# Altium footprint library QFN50P500X500X60-33N-D.PcbLib: 1 footprints
Each footprint in its own frame and in the unit in brackets; x right, y up, seen from the top. Pads: shape width x height; smd on the part's side, far side on the other; paste and mask are expansions set on the pad; w line width, h text height; cw(c..) or ccw(c..) is an arc to the next point about the centre after c.
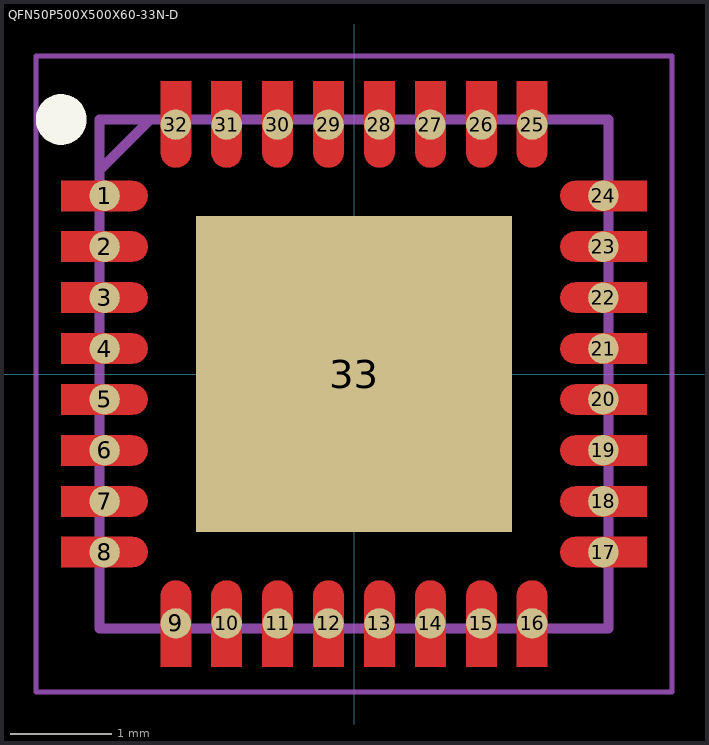
[diagram p0: the footprint, top view; thin cyan lines are the x and y axes]

## QFN50P500X500X60-33N-D [mm]
pads (33):
  round 0.3 smd: 1(-2.45,1.75) 2(-2.45,1.25) 3(-2.45,0.75) 4(-2.45,0.25) 5(-2.45,-0.25) 6(-2.45,-0.75) 7(-2.45,-1.25) 8(-2.45,-1.75) 9(-1.75,-2.45) 10(-1.25,-2.45) 11(-0.75,-2.45) 12(-0.25,-2.45) 13(0.25,-2.45) 14(0.75,-2.45) 15(1.25,-2.45) 16(1.75,-2.45) 17(2.45,-1.75) 18(2.45,-1.25) 19(2.45,-0.75) 20(2.45,-0.25) 21(2.45,0.25) 22(2.45,0.75) 23(2.45,1.25) 24(2.45,1.75) 25(1.75,2.45) 26(1.25,2.45) 27(0.75,2.45) 28(0.25,2.45) 29(-0.25,2.45) 30(-0.75,2.45) 31(-1.25,2.45) 32(-1.75,2.45)
  rect 3.1x3.1 smd: 33(0,0)
L1-Top Layer:
  region: -2.875,1.9 -2.175,1.9 -2.136,1.895 -2.1,1.88 -2.069,1.856 -2.045,1.825 -2.03,1.789 -2.025,1.75 -2.03,1.711 -2.045,1.675 -2.069,1.644 -2.1,1.62 -2.136,1.605 -2.175,1.6 -2.875,1.6
  region: -2.875,1.4 -2.175,1.4 -2.136,1.395 -2.1,1.38 -2.069,1.356 -2.045,1.325 -2.03,1.289 -2.025,1.25 -2.03,1.211 -2.045,1.175 -2.069,1.144 -2.1,1.12 -2.136,1.105 -2.175,1.1 -2.875,1.1
  region: -2.875,0.9 -2.175,0.9 -2.136,0.895 -2.1,0.88 -2.069,0.856 -2.045,0.825 -2.03,0.789 -2.025,0.75 -2.03,0.711 -2.045,0.675 -2.069,0.644 -2.1,0.62 -2.136,0.605 -2.175,0.6 -2.875,0.6
  region: -2.875,0.4 -2.175,0.4 -2.136,0.395 -2.1,0.38 -2.069,0.356 -2.045,0.325 -2.03,0.289 -2.025,0.25 -2.03,0.211 -2.045,0.175 -2.069,0.144 -2.1,0.12 -2.136,0.105 -2.175,0.1 -2.875,0.1
  region: -2.875,-0.1 -2.175,-0.1 -2.136,-0.105 -2.1,-0.12 -2.069,-0.144 -2.045,-0.175 -2.03,-0.211 -2.025,-0.25 -2.03,-0.289 -2.045,-0.325 -2.069,-0.356 -2.1,-0.38 -2.136,-0.395 -2.175,-0.4 -2.875,-0.4
  region: -2.875,-0.6 -2.175,-0.6 -2.136,-0.605 -2.1,-0.62 -2.069,-0.644 -2.045,-0.675 -2.03,-0.711 -2.025,-0.75 -2.03,-0.789 -2.045,-0.825 -2.069,-0.856 -2.1,-0.88 -2.136,-0.895 -2.175,-0.9 -2.875,-0.9
  region: -2.875,-1.1 -2.175,-1.1 -2.136,-1.105 -2.1,-1.12 -2.069,-1.144 -2.045,-1.175 -2.03,-1.211 -2.025,-1.25 -2.03,-1.289 -2.045,-1.325 -2.069,-1.356 -2.1,-1.38 -2.136,-1.395 -2.175,-1.4 -2.875,-1.4
  region: -2.875,-1.6 -2.175,-1.6 -2.136,-1.605 -2.1,-1.62 -2.069,-1.644 -2.045,-1.675 -2.03,-1.711 -2.025,-1.75 -2.03,-1.789 -2.045,-1.825 -2.069,-1.856 -2.1,-1.88 -2.136,-1.895 -2.175,-1.9 -2.875,-1.9
  region: -1.9,-2.875 -1.9,-2.175 -1.895,-2.136 -1.88,-2.1 -1.856,-2.069 -1.825,-2.045 -1.789,-2.03 -1.75,-2.025 -1.711,-2.03 -1.675,-2.045 -1.644,-2.069 -1.62,-2.1 -1.605,-2.136 -1.6,-2.175 -1.6,-2.875
  region: -1.4,-2.875 -1.4,-2.175 -1.395,-2.136 -1.38,-2.1 -1.356,-2.069 -1.325,-2.045 -1.289,-2.03 -1.25,-2.025 -1.211,-2.03 -1.175,-2.045 -1.144,-2.069 -1.12,-2.1 -1.105,-2.136 -1.1,-2.175 -1.1,-2.875
  region: -0.9,-2.875 -0.9,-2.175 -0.895,-2.136 -0.88,-2.1 -0.856,-2.069 -0.825,-2.045 -0.789,-2.03 -0.75,-2.025 -0.711,-2.03 -0.675,-2.045 -0.644,-2.069 -0.62,-2.1 -0.605,-2.136 -0.6,-2.175 -0.6,-2.875
  region: -0.4,-2.875 -0.4,-2.175 -0.395,-2.136 -0.38,-2.1 -0.356,-2.069 -0.325,-2.045 -0.289,-2.03 -0.25,-2.025 -0.211,-2.03 -0.175,-2.045 -0.144,-2.069 -0.12,-2.1 -0.105,-2.136 -0.1,-2.175 -0.1,-2.875
  region: 0.1,-2.875 0.1,-2.175 0.105,-2.136 0.12,-2.1 0.144,-2.069 0.175,-2.045 0.211,-2.03 0.25,-2.025 0.289,-2.03 0.325,-2.045 0.356,-2.069 0.38,-2.1 0.395,-2.136 0.4,-2.175 0.4,-2.875
  region: 0.6,-2.875 0.6,-2.175 0.605,-2.136 0.62,-2.1 0.644,-2.069 0.675,-2.045 0.711,-2.03 0.75,-2.025 0.789,-2.03 0.825,-2.045 0.856,-2.069 0.88,-2.1 0.895,-2.136 0.9,-2.175 0.9,-2.875
  region: 1.1,-2.875 1.1,-2.175 1.105,-2.136 1.12,-2.1 1.144,-2.069 1.175,-2.045 1.211,-2.03 1.25,-2.025 1.289,-2.03 1.325,-2.045 1.356,-2.069 1.38,-2.1 1.395,-2.136 1.4,-2.175 1.4,-2.875
  region: 1.6,-2.875 1.6,-2.175 1.605,-2.136 1.62,-2.1 1.644,-2.069 1.675,-2.045 1.711,-2.03 1.75,-2.025 1.789,-2.03 1.825,-2.045 1.856,-2.069 1.88,-2.1 1.895,-2.136 1.9,-2.175 1.9,-2.875
  region: 2.875,-1.9 2.175,-1.9 2.136,-1.895 2.1,-1.88 2.069,-1.856 2.045,-1.825 2.03,-1.789 2.025,-1.75 2.03,-1.711 2.045,-1.675 2.069,-1.644 2.1,-1.62 2.136,-1.605 2.175,-1.6 2.875,-1.6
  region: 2.875,-1.4 2.175,-1.4 2.136,-1.395 2.1,-1.38 2.069,-1.356 2.045,-1.325 2.03,-1.289 2.025,-1.25 2.03,-1.211 2.045,-1.175 2.069,-1.144 2.1,-1.12 2.136,-1.105 2.175,-1.1 2.875,-1.1
  region: 2.875,-0.9 2.175,-0.9 2.136,-0.895 2.1,-0.88 2.069,-0.856 2.045,-0.825 2.03,-0.789 2.025,-0.75 2.03,-0.711 2.045,-0.675 2.069,-0.644 2.1,-0.62 2.136,-0.605 2.175,-0.6 2.875,-0.6
  region: 2.875,-0.4 2.175,-0.4 2.136,-0.395 2.1,-0.38 2.069,-0.356 2.045,-0.325 2.03,-0.289 2.025,-0.25 2.03,-0.211 2.045,-0.175 2.069,-0.144 2.1,-0.12 2.136,-0.105 2.175,-0.1 2.875,-0.1
  region: 2.875,0.1 2.175,0.1 2.136,0.105 2.1,0.12 2.069,0.144 2.045,0.175 2.03,0.211 2.025,0.25 2.03,0.289 2.045,0.325 2.069,0.356 2.1,0.38 2.136,0.395 2.175,0.4 2.875,0.4
  region: 2.875,0.6 2.175,0.6 2.136,0.605 2.1,0.62 2.069,0.644 2.045,0.675 2.03,0.711 2.025,0.75 2.03,0.789 2.045,0.825 2.069,0.856 2.1,0.88 2.136,0.895 2.175,0.9 2.875,0.9
  region: 2.875,1.1 2.175,1.1 2.136,1.105 2.1,1.12 2.069,1.144 2.045,1.175 2.03,1.211 2.025,1.25 2.03,1.289 2.045,1.325 2.069,1.356 2.1,1.38 2.136,1.395 2.175,1.4 2.875,1.4
  region: 2.875,1.6 2.175,1.6 2.136,1.605 2.1,1.62 2.069,1.644 2.045,1.675 2.03,1.711 2.025,1.75 2.03,1.789 2.045,1.825 2.069,1.856 2.1,1.88 2.136,1.895 2.175,1.9 2.875,1.9
  region: 1.9,2.875 1.9,2.175 1.895,2.136 1.88,2.1 1.856,2.069 1.825,2.045 1.789,2.03 1.75,2.025 1.711,2.03 1.675,2.045 1.644,2.069 1.62,2.1 1.605,2.136 1.6,2.175 1.6,2.875
  region: 1.4,2.875 1.4,2.175 1.395,2.136 1.38,2.1 1.356,2.069 1.325,2.045 1.289,2.03 1.25,2.025 1.211,2.03 1.175,2.045 1.144,2.069 1.12,2.1 1.105,2.136 1.1,2.175 1.1,2.875
  region: 0.9,2.875 0.9,2.175 0.895,2.136 0.88,2.1 0.856,2.069 0.825,2.045 0.789,2.03 0.75,2.025 0.711,2.03 0.675,2.045 0.644,2.069 0.62,2.1 0.605,2.136 0.6,2.175 0.6,2.875
  region: 0.4,2.875 0.4,2.175 0.395,2.136 0.38,2.1 0.356,2.069 0.325,2.045 0.289,2.03 0.25,2.025 0.211,2.03 0.175,2.045 0.144,2.069 0.12,2.1 0.105,2.136 0.1,2.175 0.1,2.875
  region: -0.1,2.875 -0.1,2.175 -0.105,2.136 -0.12,2.1 -0.144,2.069 -0.175,2.045 -0.211,2.03 -0.25,2.025 -0.289,2.03 -0.325,2.045 -0.356,2.069 -0.38,2.1 -0.395,2.136 -0.4,2.175 -0.4,2.875
  region: -0.6,2.875 -0.6,2.175 -0.605,2.136 -0.62,2.1 -0.644,2.069 -0.675,2.045 -0.711,2.03 -0.75,2.025 -0.789,2.03 -0.825,2.045 -0.856,2.069 -0.88,2.1 -0.895,2.136 -0.9,2.175 -0.9,2.875
  region: -1.1,2.875 -1.1,2.175 -1.105,2.136 -1.12,2.1 -1.144,2.069 -1.175,2.045 -1.211,2.03 -1.25,2.025 -1.289,2.03 -1.325,2.045 -1.356,2.069 -1.38,2.1 -1.395,2.136 -1.4,2.175 -1.4,2.875
  region: -1.6,2.875 -1.6,2.175 -1.605,2.136 -1.62,2.1 -1.644,2.069 -1.675,2.045 -1.711,2.03 -1.75,2.025 -1.789,2.03 -1.825,2.045 -1.856,2.069 -1.88,2.1 -1.895,2.136 -1.9,2.175 -1.9,2.875
Top Overlay:
  circle w0.25: c-2.875,2.5 r0.125
Mechanical 15:
  lines w0.1: -2.5,2 -2,2.5 ; -2.5,-2.5 2.5,-2.5 2.5,2.5 -2.5,2.5 -2.5,-2.5
Mechanical 20:
  lines w0.05: -3.125,-3.125 3.125,-3.125 3.125,3.125 -3.125,3.125 -3.125,-3.125
3D body "PCAL6524HEAZ.stp": height 5.8, standoff -4.65, extent -10,-3.376 10,3.376